# Altium integrated library DB9.IntLib: 1 symbol
Pins are listed as number, name and electrical type; pins without a type are passive.

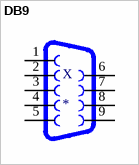
[diagram p0: symbol DB9]

## DB9
designator X
SURGE SUPPRESSOR RS-232 DB9M/F; MF: Tripp Lite; MP: DB9; Package: None; Price: None; SnapEDA_Link: https://www.snapeda.com/parts/DB9/Tripp%20Lite/view-part/4219179/?ref=snap; Availability: Unavailable; Value: *
footprint DB9
pins: 1, 2, 3, 4, 5, 6, 7, 8, 9